# EAGLE library part CON_2.54_1X7 (library Ravender)
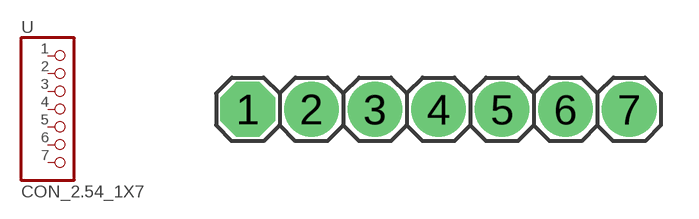
[diagram p1: symbol with the pads of CON_2.54_GOLDPIN_PROSTY_7; footprint CON_2.54_GOLDPIN_PROSTY_7]

Designator prefix -

## CON_2.54_1X7GOLDPIN  [CON_2.54_GOLDPIN_PROSTY_7]
1  1  pas
2  2  pas
3  3  pas
4  4  pas
5  5  pas
6  6  pas
7  7  pas

## CON_2.54_1X7WF  [CON_2.54_GOLDPIN_PROSTY_7]
Pads as for CON_2.54_GOLDPIN_PROSTY_7

## Footprint CON_2.54_GOLDPIN_PROSTY_7 (pad centres in mm)
PIN HEADER
drill 0.8 pad 2.184 octagon: 1 -7.62,0
drill 0.8 pad 2.184: 2 -5.08,0; 3 -2.54,0; 4 0,0; 5 2.54,0; 6 5.08,0; 7 7.62,0